# EAGLE library part LTC4412 (library Analog Devices)
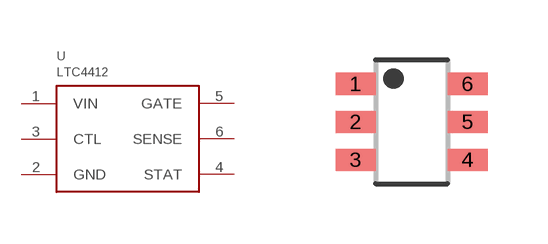
[diagram p26: symbol with the pads of SOT23-6; footprint SOT23-6]

Designator prefix U

## LTC4412  [SOT23-6]
1  VIN
2  GND
3  CTL
4  STAT
5  GATE
6  SENSE

## Footprint SOT23-6 (pad centres in mm)
smd 1 x 0.55: 1 -1.4,0.95; 2 -1.4,0; 3 -1.4,-0.95; 4 1.4,-0.95; 5 1.4,0; 6 1.4,0.95